# EAGLE library part 24POSCE (library 2600)
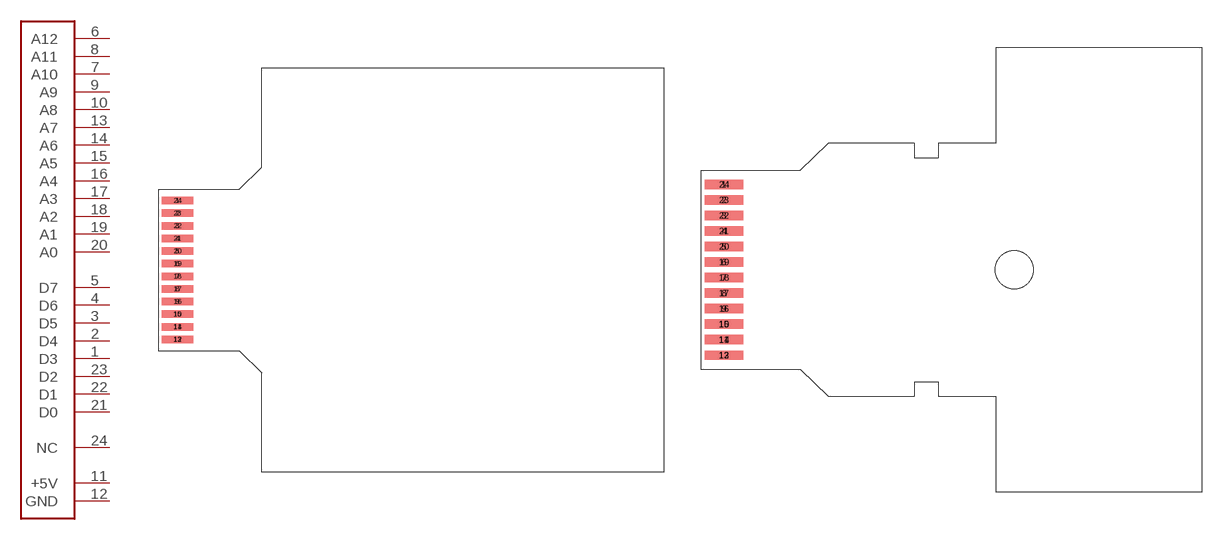
[diagram p0: symbol with the pads of 2600DEV; footprints 2600DEV, 2600LARGE]

Designator prefix -

## 24POSCEDEV  [2600DEV]
1  D3
2  D4
3  D5
4  D6
5  D7
6  A12
7  A10
8  A11
9  A9
10  A8
11  +5V  pwr
12  GND  pwr
13  A7
14  A6
15  A5
16  A4
17  A3
18  A2
19  A1
20  A0
21  D0
22  D1
23  D2
24  NC

## 24POSCELARGE  [2600LARGE]
Pads as for 2600DEV

## 24POSCESMALL  [2600SMALL]
Pads as for 2600DEV

## Footprint 2600DEV (pad centres in mm)
smd 6.35 x 1.524: 1 3.81,13.97; 2 3.81,11.43; 3 3.81,8.89; 4 3.81,6.35; 5 3.81,3.81; 6 3.81,1.27; 7 3.81,-1.27; 8 3.81,-3.81; 9 3.81,-6.35; 10 3.81,-8.89; 11 3.81,-11.43; 12 3.81,-13.97
smd 6.35 x 1.524 bottom: 13 3.81,-13.97; 14 3.81,-11.43; 15 3.81,-8.89; 16 3.81,-6.35; 17 3.81,-3.81; 18 3.81,-1.27; 19 3.81,1.27; 20 3.81,3.81; 21 3.81,6.35; 22 3.81,8.89; 23 3.81,11.43; 24 3.81,13.97

## Footprint 2600LARGE (pad centres in mm)
smd 6.35 x 1.524: 1 3.81,13.97; 2 3.81,11.43; 3 3.81,8.89; 4 3.81,6.35; 5 3.81,3.81; 6 3.81,1.27; 7 3.81,-1.27; 8 3.81,-3.81; 9 3.81,-6.35; 10 3.81,-8.89; 11 3.81,-11.43; 12 3.81,-13.97
smd 6.35 x 1.524 bottom: 13 3.81,-13.97; 14 3.81,-11.43; 15 3.81,-8.89; 16 3.81,-6.35; 17 3.81,-3.81; 18 3.81,-1.27; 19 3.81,1.27; 20 3.81,3.81; 21 3.81,6.35; 22 3.81,8.89; 23 3.81,11.43; 24 3.81,13.97
hole 6.223 at 51.308,0

## Footprint 2600SMALL (pad centres in mm)
smd 6.35 x 1.524: 1 3.81,13.97; 2 3.81,11.43; 3 3.81,8.89; 4 3.81,6.35; 5 3.81,3.81; 6 3.81,1.27; 7 3.81,-1.27; 8 3.81,-3.81; 9 3.81,-6.35; 10 3.81,-8.89; 11 3.81,-11.43; 12 3.81,-13.97
smd 6.35 x 1.524 bottom: 13 3.81,-13.97; 14 3.81,-11.43; 15 3.81,-8.89; 16 3.81,-6.35; 17 3.81,-3.81; 18 3.81,-1.27; 19 3.81,1.27; 20 3.81,3.81; 21 3.81,6.35; 22 3.81,8.89; 23 3.81,11.43; 24 3.81,13.97
hole 6.223 at 51.308,0